# EAGLE library part MEGA168 (library Atmel_MCUs)
ATMega 168
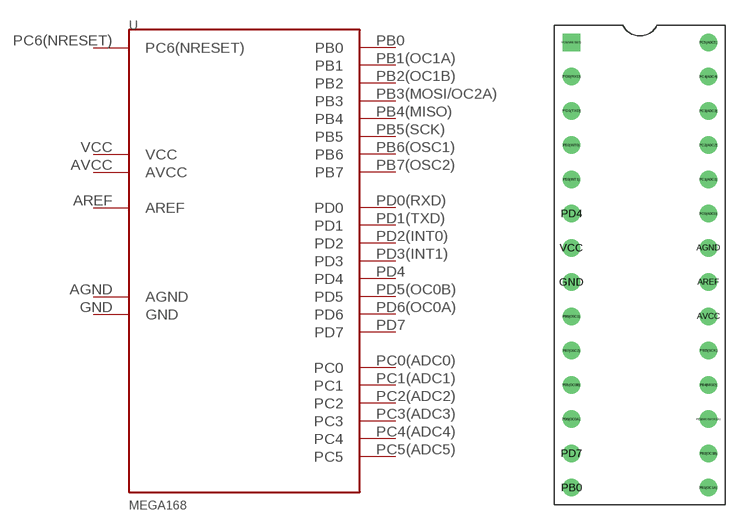
[diagram p1: symbol with the pads of MEGA168; footprint MEGA168]

Designator prefix -

## MEGA168  [MEGA168]
AGND  AGND  pwr
AREF  AREF  pwr
AVCC  AVCC  pwr
GND  GND  pwr
PB0  PB0
PB1(OC1A)  PB1
PB2(OC1B)  PB2
PB3(MOSI/OC2A)  PB3
PB4(MISO)  PB4
PB5(SCK)  PB5
PB6(OSC1)  PB6
PB7(OSC2)  PB7
PC0(ADC0)  PC0
PC1(ADC1)  PC1
PC2(ADC2)  PC2
PC3(ADC3)  PC3
PC4(ADC4)  PC4
PC5(ADC5)  PC5
PC6(NRESET)  PC6(NRESET)
PD0(RXD)  PD0
PD1(TXD)  PD1
PD2(INT0)  PD2
PD3(INT1)  PD3
PD4  PD4
PD5(OC0B)  PD5
PD6(OC0A)  PD6
PD7  PD7
VCC  VCC  pwr

## Footprint MEGA168 (pad centres in mm)
drill 0.8: AGND 5.08,-7.62; AREF 5.08,-10.16; AVCC 5.08,-12.7; GND -5.08,-10.16; PB0 -5.08,-25.4; PB1(OC1A) 5.08,-25.4; PB2(OC1B) 5.08,-22.86; PB3(MOSI/OC2A) 5.08,-20.32; PB4(MISO) 5.08,-17.78; PB5(SCK) 5.08,-15.24; PB6(OSC1) -5.08,-12.7; PB7(OSC2) -5.08,-15.24; PC0(ADC0) 5.08,-5.08; PC1(ADC1) 5.08,-2.54; PC2(ADC2) 5.08,0; PC3(ADC3) 5.08,2.54; PC4(ADC4) 5.08,5.08; PC5(ADC5) 5.08,7.62; PD0(RXD) -5.08,5.08; PD1(TXD) -5.08,2.54; PD2(INT0) -5.08,0; PD3(INT1) -5.08,-2.54; PD4 -5.08,-5.08; PD5(OC0B) -5.08,-17.78; PD6(OC0A) -5.08,-20.32; PD7 -5.08,-22.86; VCC -5.08,-7.62
drill 0.8 square: PC6(NRESET) -5.08,7.62